# Altium footprint library libreriaPcb.PcbLib: 683 footprints (part 15 of 44)
Each footprint in its own frame and in the unit in brackets; x right, y up, seen from the top. Pads: shape width x height; smd on the part's side, far side on the other; paste and mask are expansions set on the pad; w line width, h text height; cw(c..) or ccw(c..) is an arc to the next point about the centre after c.
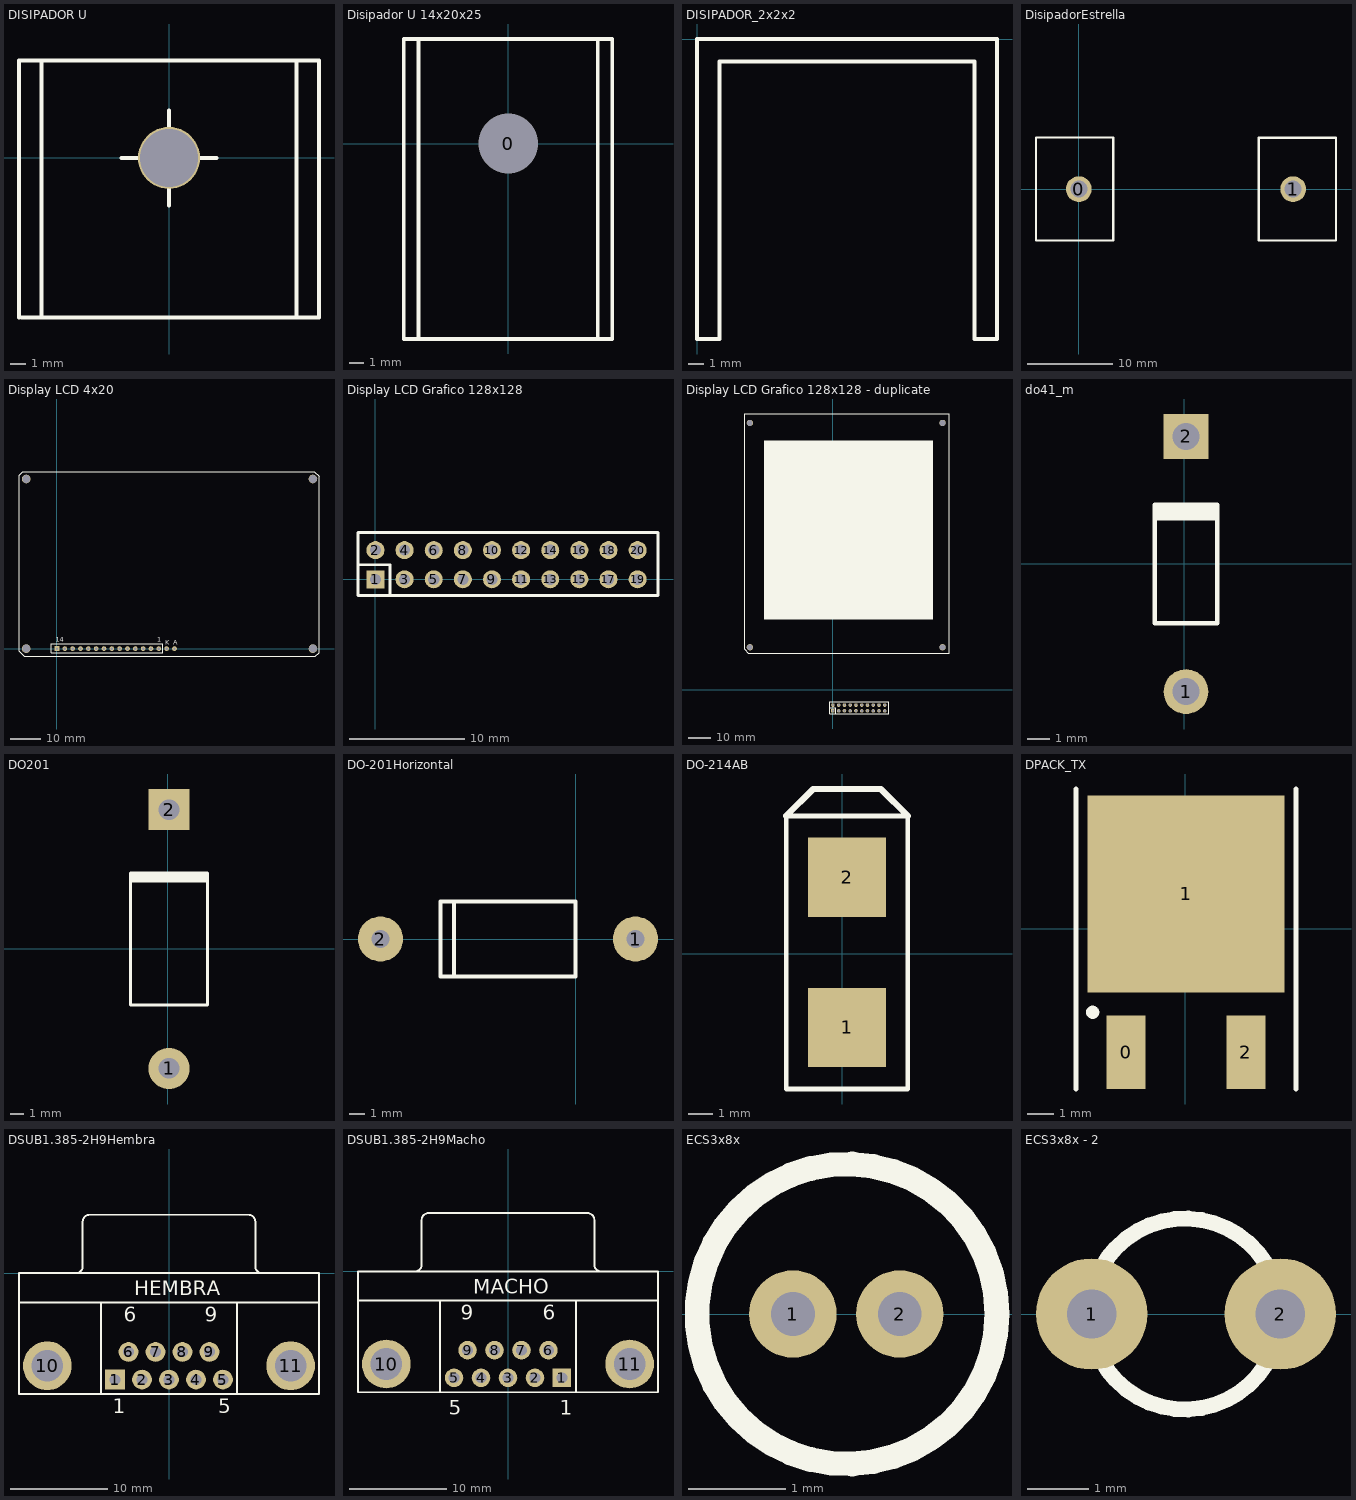
[diagram p14: the footprints below, top view; thin cyan lines are the x and y axes]

## DISIPADOR U [mil]
pads (1):
  round 163 hole 153: ""(0,0)
Top Overlay:
  lines w10: -393.7,-419.09 -393.7,255.91 393.7,255.91 393.7,-419.09 -387.99,-419.09 ; -334.65,-419.09 -334.65,255.91 ; -125,0 -75,0 ; 0,-125 0,-75 ; 0,75 0,125 ; 75,0 125,0 ; 334.65,-419.09 334.65,255.91

## Disipador U 14x20x25 [mm]
pads (1):
  round 3 hole 4: 0(0,0)
Top Overlay:
  lines w0.254: -6,-13.091 -6,7 ; -4.943,7 -4.866,7 ; 6,-13.091 6,7 ; -7,-13.091 -7,7 6.97,7 6.97,-13.091 -7,-13.091
3D body: height 1, standoff 0, extent -7,-13.075 6.9,7.025
3D body: height 25, standoff 1, extent -7,-13.075 -6,7.025
3D body: height 25, standoff 1, extent 6,-13.1 6.9,6.975
3D body: height 1.5, standoff 1, extent -4.96,-4.99 5,4.99

## DISIPADOR_2x2x2 [mm]
Top Overlay:
  lines w0.254: 0,-20 0,0 20,0 20,-20 18.5,-20 18.5,-1.5 1.5,-1.5 1.5,-20 0,-20
3D body: height 24, standoff 4, extent 0.001,-19.999 19.999,-0.001

## DisipadorEstrella [mm]
pads (2):
  round 3 hole 2: 0(0,0) 1(25.019,0)
Top Overlay:
  lines w0.254: -5.004,-5.994 4.013,-5.994 4.013,6.02 -5.004,6.02 -5.004,-5.994 ; 21.006,-5.994 30.023,-5.994 30.023,6.02 30.023,5.994 21.006,5.994 21.006,-5.994
3D body: height 50.1, standoff 0, extent -0.992,-0.998 1,0.998
3D body: height 50.1, standoff 0, extent 24.027,-0.998 26.019,0.998
3D body: height 50, standoff 0, extent 4.013,-0.813 21.006,0.813
3D body: height 50, standoff 0, extent -5.004,-5.994 4.013,6.02
3D body: height 50, standoff 0, extent 21.031,-6.071 30.048,5.944

## Display LCD 4x20 [mil]
pads (20):
  round 60 hole 30: 1(1300,0) 2(1200,0) 3(1100,0) 4(1000,0) 5(900,0) 6(800,0) 7(700,0) 8(600,0) 9(500,0) 10(400,0) 11(300,0) 12(200,0) 13(100,0) 15(1500,0) 16(1400,0)
  rect 60x60 hole 30: 14(0,0)
  round 110 hole 100: 100(-393,0) 100(-393,2165.35) 100(3267.72,2165.35) 100(3267.72,0)
Top Overlay:
  lines w10: -485,-35 -420,-100 3295,-100 3345,-50 3345,85 3345,2200 3285,2260 -440,2260 -485,2215 -485,85 -485,-35 ; -75,-55 -75,65 1350,65 1350,-50 1345,-55 -75,-55
  text "14" at -15,90 h60
  text "1" at 1280,85 h60
  text "K" at 1385,50 h60
  text "A" at 1485,50 h60

## Display LCD Grafico 128x128 [mil]
pads (20):
  rect 62x62 hole 38: 1(0,0)
  round 62 hole 38: 2(0,100) 3(100,0) 4(100,100) 5(200,0) 6(200,100) 7(300,0) 8(300,100) 9(400,0) 10(400,100) 11(500,0) 12(500,100) 13(600,0) 14(600,100) 15(700,0) 16(700,100) 17(800,0) 18(800,100) 19(900,0) 20(900,100)
Top Overlay:
  lines w10: -60,50 50,50 50,-55 ; -60,-55 -60,160 970,160 970,-55 -60,-55

## Display LCD Grafico 128x128 - duplicate [mil]
pads (24):
  rect 62x62 hole 38: 1(0,-370)
  round 62 hole 38: 2(0,-270) 3(100,-370) 4(100,-270) 5(200,-370) 6(200,-270) 7(300,-370) 8(300,-270) 9(400,-370) 10(400,-270) 11(500,-370) 12(500,-270) 13(600,-370) 14(600,-270) 15(700,-370) 16(700,-270) 17(800,-370) 18(800,-270) 19(900,-370) 20(900,-270)
  round 110 hole 100: 100(-1445,735) 100(-1445,4635) 100(1905,735) 100(1905,4635)
Top Overlay:
  region: 1740,1215 1740,4330 -1200,4330 -1200,1215
  lines w10: -60,-320 50,-320 50,-425 ; -1537,700 -1472,635 2025,635 2025,1088 2025,4790 -1537,4790 -1537,820 -1537,700 ; -60,-425 970,-425 970,-210 -60,-210 -60,-425

## do41_m [mm]
pads (2):
  round 2 hole 1.2: 1(0.077,-5.719)
  rect 2x2 hole 1.2: 2(0.077,5.681)
Top Overlay:
  region: 1.489,1.931 1.489,2.731 -1.311,2.731 -1.311,1.931
  lines w0.2: -1.323,2.631 -1.323,-2.669 1.477,-2.669 1.477,2.631
3D body: height 2, standoff 0, extent -0.223,-6.019 0.377,-5.419
3D body: height 2, standoff 0, extent -0.223,5.381 0.377,5.981
3D body: height 2.3, standoff 1.7, extent -0.22,-5.819 0.377,5.681
3D body: height 3.4, standoff 0.6, extent -1.273,0.991 1.527,1.991
3D body: height 3.25, standoff 0.75, extent -1.123,-2.511 1.377,2.489

## DO201 [mm]
pads (2):
  round 3 hole 1.5: 1(0.096,-8.718)
  rect 3x3 hole 1.5: 2(0.096,10.122)
Top Overlay:
  region: 2.896,4.802 2.896,5.602 -2.704,5.602 -2.704,4.802
  lines w0.2: -2.704,5.502 -2.704,-4.098 2.896,-4.098 2.896,5.502
3D body: height 5, standoff 0, extent -2.397,-4.3 2.6,5.7
3D body: height 5.2, standoff 0, extent -2.499,4.65 2.7,5.65
3D body: height 3.59, standoff 1.6, extent -0.902,-9.4 1.094,10.6
3D body: height 2, standoff 0, extent -0.904,-9.718 1.096,-7.718
3D body: height 2, standoff 0, extent -0.904,9.122 1.096,11.122

## DO-201Horizontal [mm]
pads (2):
  round 3 hole 1.2: 1(4,0) 2(-13,0)
Top Overlay:
  lines w0.254: -8.1,2.5 -8.1,-2.5 -8,-2.5 ; -9,-2.5 0,-2.5 0,2.5 -9,2.5 -9,-2.5
3D body: height 3, standoff 2, extent -13,-0.499 4,0.499
3D body: height 5.18, standoff 0, extent -8.4,-2.595 -7.9,2.595
3D body: height 4.98, standoff 0, extent -9,-2.395 0,2.595
3D body: height 3, standoff 0, extent -13.496,-0.499 -12.5,0.499
3D body: height 3, standoff 0, extent 3.504,-0.499 4.5,0.499

## DO-214AB [mm]
pads (2):
  rect 3.2x3.27 smd: 1(0.19,-3.045) 2(0.19,3.135)
Top Overlay:
  lines w0.2: -2.31,-5.58 -2.31,5.67 2.69,5.67 2.69,-5.58 0.19,-5.58 -2.31,-5.58
  lines w0.254: -2.31,5.67 -2.31,5.673 -1.207,6.776 1.584,6.776 2.69,5.67
3D body: height 2, standoff 0, extent -2.433,-5.767 2.821,6.764
3D body: height 2.1, standoff 2, extent -2.454,5.112 2.8,5.637

## DPACK_TX [mm]
pads (3):
  rect 1.5x2.8 smd: 0(-2.25,-4.703) 2(2.322,-4.703)
  rect 7.5x7.5 smd: 1(0.036,1.33)
Top Overlay:
  circle w0.25: c-3.52,-3.179 r0.125
  lines w0.2: -4.155,-6.1 -4.155,5.33 ; 4.227,-6.1 4.227,5.33
3D body: height 1, standoff 0, extent -2.762,-5.719 -1.737,-3.533
3D body: height 2, standoff 1, extent -2.762,-3.687 -1.737,-2.388
3D body: height 2, standoff 1, extent -0.476,-3.687 0.549,-2.388
3D body: height 1, standoff 0, extent -3.266,3.802 3.338,4.696
3D body: height 2, standoff 1, extent 1.81,-3.687 2.835,-2.388
3D body: height 1, standoff 0, extent 1.81,-5.719 2.835,-3.533
3D body: height 4.65, standoff 0.2, extent -3.266,-2.353 3.338,3.87

## DSUB1.385-2H9Hembra [mm] "Connector; D Subminiature; 9 Position; Right Angle; Pitch 1.385 mm"
height 12.75
pads (11):
  rect 2.032x2.032 hole 1.09: 1(-5.54,-10.92)
  round 2.032 hole 1.09: 2(-2.77,-10.92) 3(0,-10.92) 4(2.77,-10.92) 5(5.54,-10.92) 6(-4.155,-8.08) 7(-1.385,-8.08) 8(1.385,-8.08) 9(4.155,-8.08)
  round 5 hole 3.26: 10(-12.495,-9.5) 11(12.495,-9.5)
Top Overlay:
  lines w0.2: -15.4,-3 15.4,-3 ; -9.56,0.005 ccw(c-9.56,0.7) -8.865,0.7 -8.865,5.3 ; -8.86,5.305 cw(c-8.165,5.305) -8.165,6 8.165,6 cw(c8.165,5.305) 8.86,5.305 ; -7,-12.4 -7,-3 ; 7,-12.4 7,-3 ; 8.865,5.3 8.865,0.7 ccw(c9.56,0.7) 9.56,0.005 ; -15.4,-12.4 15.4,-12.4 15.4,0 -15.4,0 -15.4,-12.4
  text "6" at -4.655,-4.975 h1.5
  text "9" at 3.655,-4.975 h1.5
  text "5" at 5.04,-14.375 h1.5
  text "1" at -5.79,-14.375 h1.5
  text "HEMBRA" at -3.556,-2.286 h1.5
3D body "db9hembra.stp": height 13.24, standoff -2.81, extent -15.655,-12.7 15.655,5.7

## DSUB1.385-2H9Macho [mm] "Connector; D Subminiature; 9 Position; Right Angle; Pitch 1.385 mm"
height 12.75
pads (11):
  rect 1.905x1.905 hole 1.09: 1(5.54,-10.92)
  round 1.905 hole 1.09: 2(2.77,-10.92) 3(0,-10.92) 4(-2.77,-10.92) 5(-5.54,-10.92) 6(4.155,-8.08) 7(1.385,-8.08) 8(-1.385,-8.08) 9(-4.155,-8.08)
  round 5 hole 3.26: 10(-12.495,-9.5) 11(12.495,-9.5)
Top Overlay:
  lines w0.2: -15.4,-3 15.4,-3 ; -9.56,0.005 ccw(c-9.56,0.7) -8.865,0.7 -8.865,5.3 ; -8.86,5.305 cw(c-8.165,5.305) -8.165,6 8.165,6 cw(c8.165,5.305) 8.86,5.305 ; -7,-12.4 -7,-3 ; 7,-12.4 7,-3 ; 8.865,5.3 8.865,0.7 ccw(c9.56,0.7) 9.56,0.005 ; -15.4,-12.4 -15.4,0 15.4,0 15.4,-12.4 -15.4,-12.4
  text "1" at 5.334,-14.732 h1.5
  text "5" at -6.096,-14.732 h1.5
  text "9" at -4.826,-4.953 h1.5
  text "6" at 3.556,-4.953 h1.5
  text "MACHO" at -3.556,-2.286 h1.5
3D body "db9.stp": height 12.46, standoff -3.59, extent -15.732,-12.675 15.582,6.125

## ECS3x8x [mm]
pads (2):
  round 0.9 hole 0.45: 1(4.7,0) 2(5.8,0)
Top Overlay:
  circle w0.254: c5.256,0 r1.544

## ECS3x8x - 2 [mm]
pads (2):
  round 1.8 hole 0.8: 1(3.75,0) 2(6.8,0)
Top Overlay:
  circle w0.254: c5.256,0 r1.544
3D body: height 8, standoff 0, extent 3.713,-1.543 6.799,1.543